# Altium footprint library SN74LVC2G17.PcbLib: 1 footprints
Each footprint in its own frame and in the unit in brackets; x right, y up, seen from the top. Pads: shape width x height; smd on the part's side, far side on the other; paste and mask are expansions set on the pad; w line width, h text height; cw(c..) or ccw(c..) is an arc to the next point about the centre after c.
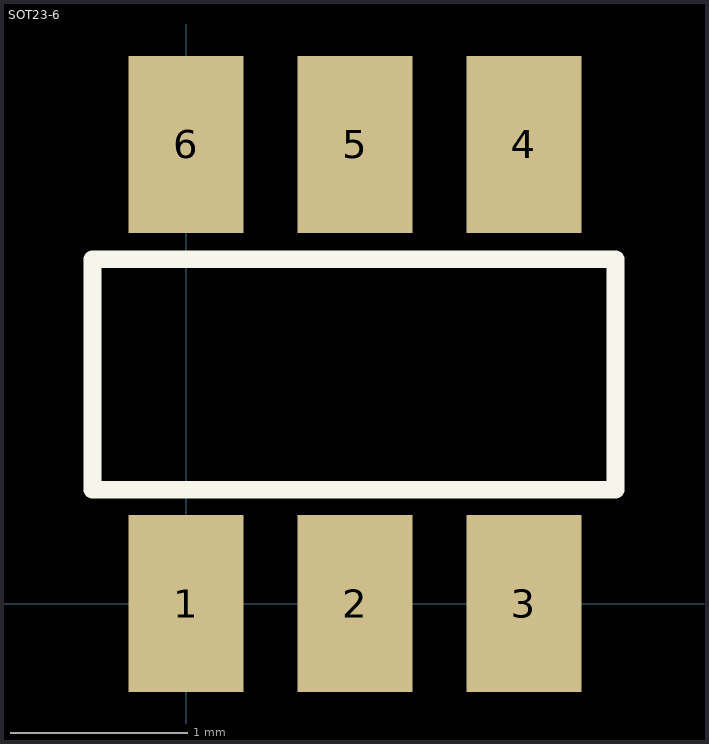
[diagram p0: the footprint, top view; thin cyan lines are the x and y axes]

## SOT23-6 [mm]
pads (6):
  rect 0.65x1 smd: 1(0,0) 2(0.953,0) 3(1.906,0) 4(1.906,2.59) 5(0.953,2.59) 6(0,2.59)
Top Overlay:
  lines w0.1: -0.528,0.642 2.422,0.642 2.422,1.942 -0.528,1.942 -0.528,0.642
3D body: height 1.1, standoff 0, extent -0.5,0.05 2.4,2.55